# Altium schematic symbol library Sch_Cap.SchLib: 5 symbols
Pins are listed as number, name and electrical type; pins without a type are passive.

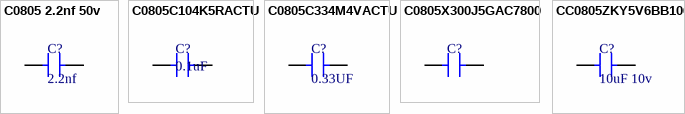
[diagram p0: symbols C0805 2.2nf 50v to CC0805ZKY5V6BB106]

## C0805 2.2nf 50v
designator C?, comment 2.2nf
[2.2nF 50v]
footprint C0805 30PF 50V
pins: 1, 2 "1"

## C0805C104K5RACTU
designator C?, comment 0.1uF
[0.1uF 50v] 100nF Cap Ceramic 0.1uF 50V X7R 10% SMD 2.0 x 1.2 mm 125 C Paper T/R; Manufacturer: KEMET; Manufacturer Part Number: C0805C104K5RACTU; Voltage: 500V; Supplier 1: Digi-Key; Stock 1: 2487008; Pricing 1: 1 = 0.16000, 10 = 0.11500, 50 = 0.06540, 100 = 0.05420, 500 = 0.03802, 1000 = 0.03147 (USD); RoHS: Yes; Mount: Surface Mount,PCB; Case/Package: 0805; Number of Pins: 2; Dielectric Material: Ceramic; Case Code (Imperial): 0805; Case Code (Metric): 2012; Contact Plating: Tin,Matte; Min Operating Temperature: -55°C; Max Operating Temperature: 125°C; Capacitance: 100nF; Tolerance: 10%; Packaging: Tape and Reel; Voltage Rating (DC): 50V; Dielectric: X7R; Termination: SMD/SMT; Package Quantity: 4000; Voltage Rating: 50V; Length: 2mm; Height: 0.9mm; Width: 1.2mm; Lead Pitch: 0.75mm; Depth: 1.25mm; Thickness: 0.035inch; Radiation Hardening: No; REACH SVHC: No SVHC; ComponentLink1URL: https://datasheet.ciiva.com/14589/70095383-14589048.pdf?src-supplier=Allied+Electronics; ComponentLink1Description: https://datasheet.ciiva.com/14589/70095383-14589048.pdf?src-supplier=Allied+Electronics; ComponentLink2URL: https://datasheet.ciiva.com/28682/1851736-28682232.pdf?src-supplier=Element14; ComponentLink2Description: https://datasheet.ciiva.com/28682/1851736-28682232.pdf?src-supplier=Element14; ComponentLink3URL: https://datasheet.ciiva.com/32431/slceramic-chip-condensers-e-32431755.pdf?src-supplier=Distrelec; ComponentLink3Description: https://datasheet.ciiva.com/32431/slceramic-chip-condensers-e-32431755.pdf?src-supplier=Distrelec; ComponentLink4URL: https://datasheet.ciiva.com/18410/70095383-18410815.pdf?src-supplier=Allied+Electronics; ComponentLink4Description: https://datasheet.ciiva.com/18410/70095383-18410815.pdf?src-supplier=Allied+Electronics; Supplier Part Number 1: 399-1170-1-ND
footprint CAP104 0.1UF 50V (0.1µF ±10% 50V Ceramic Capacitor X7R 0805 (2012 Metric))
pins: 1, 2 "1"

## C0805C334M4VACTU
designator C?, comment 0.33UF
[0.33uF 5v] Multilayer Ceramic Capacitors MLCC - SMD/SMT 16volts 0.33uF Y5V 20%; Manufacturer: KEMET; Manufacturer Part Number: C0805C334M4VACTU; Capacitance: 330nF; Voltage Rating: 16V; Dissipation Factor: 7%; Supplier 1: Digi-Key; Stock 1: 0; Pricing 1: 5000 = 0.06512 (USD); RoHS: Yes; Mount: Surface Mount; Case/Package: 0805; Case Code (Metric): 2012; Case Code (Imperial): 0805; Dielectric Material: Ceramic; Min Operating Temperature: -30°C; Max Operating Temperature: 85°C; Tolerance: 20%; Package Quantity: 4000; Packaging: Tape and Reel; Voltage Rating (DC): 16V; Dielectric: Y5V; Termination: SMD/SMT; Resistor Type: Ceramic; Series: C; Construction: Flat; Length: 2mm; Width: 0.049inch; Height: 0.78mm; Thickness: 0.043inch; Lead Pitch: 0.75mm; Depth: 1.25mm; Lead Free: Lead Free; RoHS Compliant: Yes; ComponentLink1URL: http://www.mouser.com/ds/2/212/KEM_C1005_Y5V_SMD-1101305.pdf?src-supplier=Mouser; ComponentLink1Description: http://www.mouser.com/ds/2/212/KEM_C1005_Y5V_SMD-1101305.pdf?src-supplier=Mouser; ComponentLink2URL: https://search.kemet.com/component-edge/download/datasheet/C0805C334M4VACTU.pdf?src-supplier=Digi-Key; ComponentLink2Description: https://search.kemet.com/component-edge/download/datasheet/C0805C334M4VACTU.pdf?src-supplier=Digi-Key; Supplier Part Number 1: C0805C334M4VACTU-ND
footprint CAP 0.33UF (CAP CER 0.33UF 16V Y5V 0805)
pins: 1, 2 "1"

## C0805X300J5GAC7800
designator C?, comment 30PF 50V  (value not drawn)
[30PF 50V]; Manufacturer: KEMET; Manufacturer Part Number: C0805X300J5GAC7800; Supplier 1: Digi-Key; Stock 1: 3943; Pricing 1: 1 = 0.42000, 10 = 0.29100, 50 = 0.20380, 100 = 0.17460, 500 = 0.13098, 1000 = 0.11060 (USD); RoHS: No; Supplier Part Number 1: 399-19459-1-ND
footprint C0805 30PF 50V
pins: 1, 2 "1"

## CC0805ZKY5V6BB106
designator C?, comment 10uF 10v
[10uF 10v ]CAP CER 10UF 10V Y5V 0805; Manufacturer: Yageo; Dielectric Material: Ceramic; Tolerance: 80%; Dissipation Factor: 20%; Supplier 1: Digi-Key; RoHS: Yes; Description: CAP CER 10UF 10V Y5V 0805; Category: Ceramic Capacitors; Stock 1: 762534; Pricing 1: 1=0.19, 10=0.135, 50=0.0764, 100=0.0633, 500=0.0444, 1000=0.03675 (USD); Mount: Surface Mount; Case/Package: 0805; Number of Pins: 2; Case Code (Metric): 2012; Case Code (Imperial): 0805; Min Operating Temperature: -30°C; Max Operating Temperature: 85°C; Package Quantity: 1; Capacitance: 10uF; Voltage Rating: 10V; Packaging: Tape and Reel; Voltage Rating (DC): 10V; Dielectric: Y5V; Termination: SMD/SMT; Series: CC; Construction: Flat; Length: 2mm; Width: 0.049inch; Height: 0.85mm; Thickness: 0.049inch; Depth: 1.25mm; Radiation Hardening: No; Reach SVHC Compliant: No; Lead Free: Lead Free; Halogen Free: Halogen Free; RoHS Compliant: Yes; ComponentLink1URL: https://datasheet.ciiva.com/11465/upy-gphc-y5v-6-3v-to-50v-5-11465832.pdf?src-supplier=Avnet; ComponentLink1Description: https://datasheet.ciiva.com/11465/upy-gphc-y5v-6-3v-to-50v-5-11465832.pdf?src-supplier=Avnet; ComponentLink2URL: https://datasheet.ciiva.com/28450/1132289-28450847.pdf?src-supplier=Element14; ComponentLink2Description: https://datasheet.ciiva.com/28450/1132289-28450847.pdf?src-supplier=Element14; ComponentLink3URL: https://datasheet.ciiva.com/156/mlccorderingcode-156385.pdf?src-supplier=Digi-Key; ComponentLink3Description: https://datasheet.ciiva.com/156/mlccorderingcode-156385.pdf?src-supplier=Digi-Key; ComponentLink4URL: https://datasheet.ciiva.com/156/mlccorderingcode-156384.pdf?src-supplier=Digi-Key; ComponentLink4Description: https://datasheet.ciiva.com/156/mlccorderingcode-156384.pdf?src-supplier=Digi-Key; ComponentLink5URL: https://datasheet.ciiva.com/156/mlccorderingcode-156386.pdf?src-supplier=Digi-Key; ComponentLink5Description: https://datasheet.ciiva.com/156/mlccorderingcode-156386.pdf?src-supplier=Digi-Key; Supplier Part Number 1: 311-1355-1-ND
pins: 1, 2 "1"